# Altium footprint library Transistors.PcbLib: 36 footprints (part 1 of 3)
Each footprint in its own frame and in the unit in brackets; x right, y up, seen from the top. Pads: shape width x height; smd on the part's side, far side on the other; paste and mask are expansions set on the pad; w line width, h text height; cw(c..) or ccw(c..) is an arc to the next point about the centre after c.
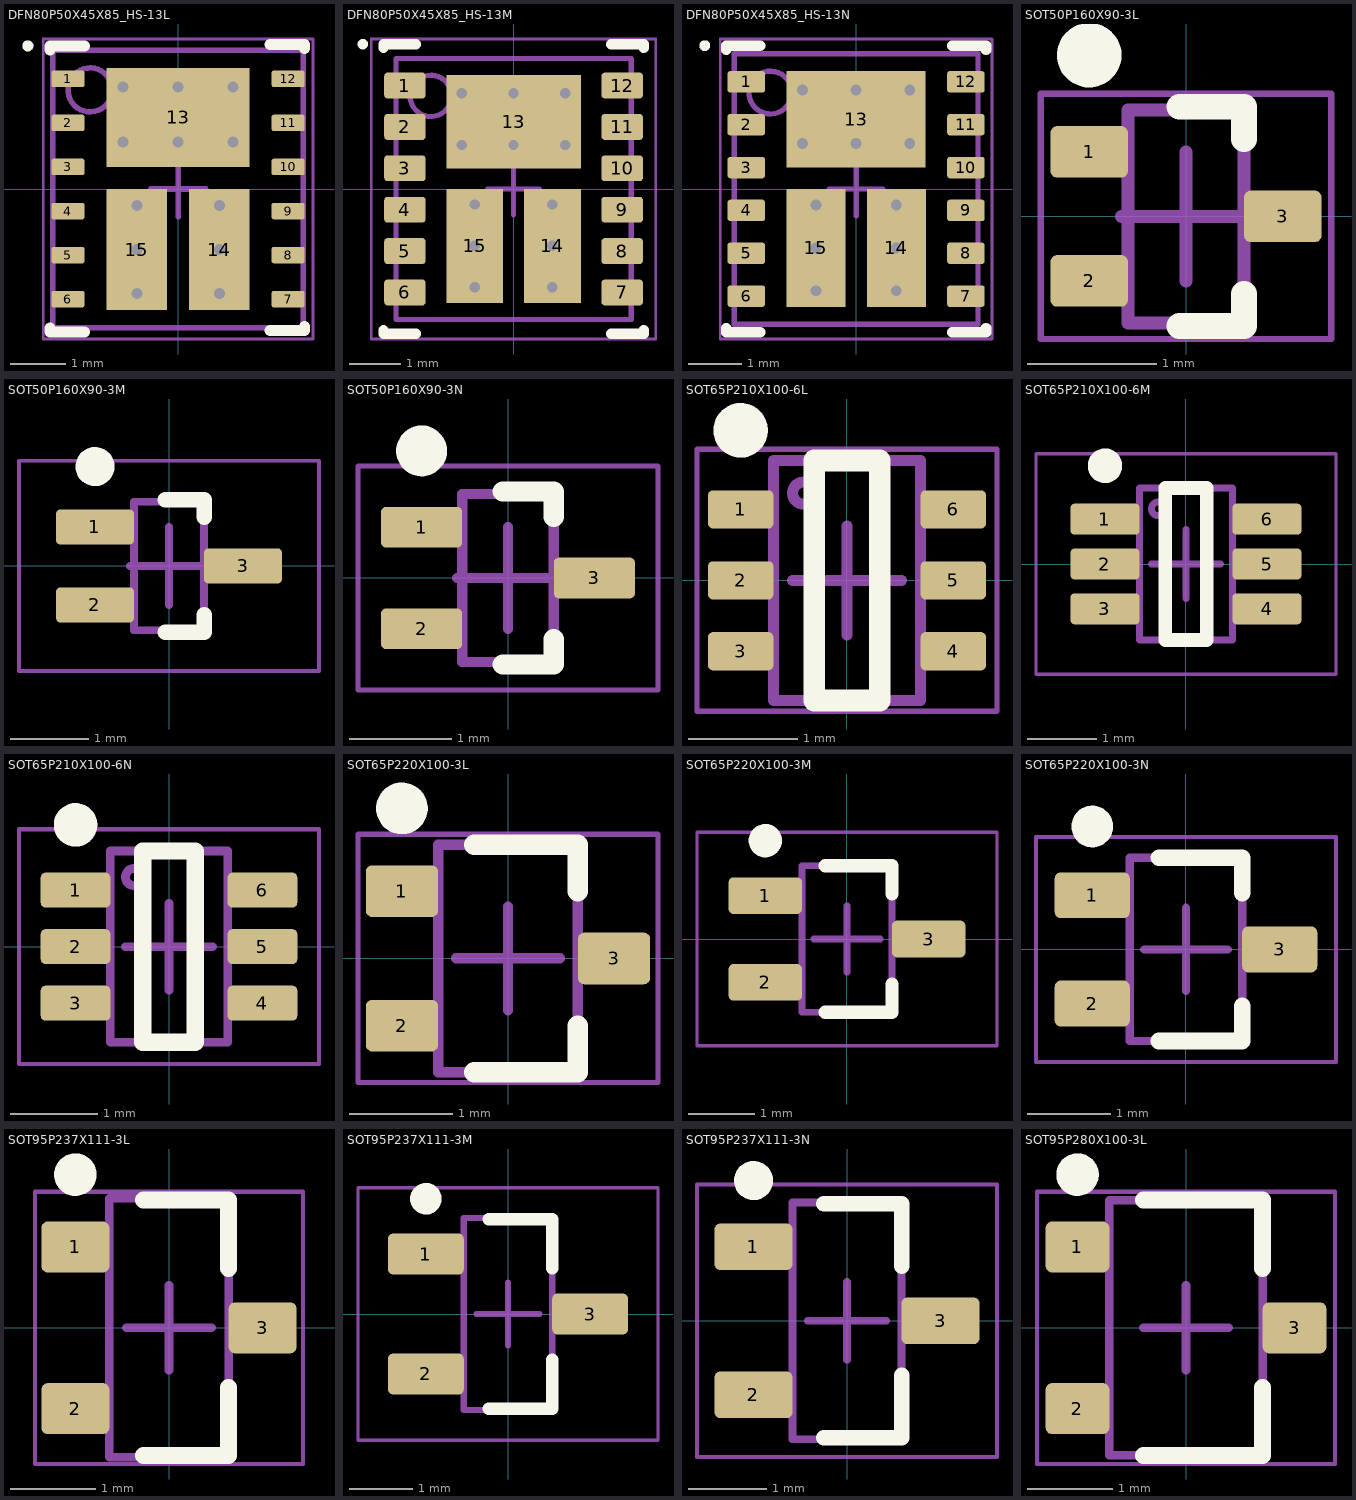
[diagram p0: the footprints below, top view; thin cyan lines are the x and y axes]

## DFN80P50X45X85_HS-13L [mm] "PSON, 12-Leads, Body 5.00x4.50mm, Pitch 0.80mm, Thermal Pad 1.70x2.50mm, IPC High Density"
height 0.85
pads (15):
  rrect25% 0.6x0.3 smd paste+0 mask+0.05: 1(-2,2) 2(-2,1.2) 3(-2,0.4) 4(-2,-0.4) 5(-2,-1.2) 6(-2,-2) 7(2,-2) 8(2,-1.2) 9(2,-0.4) 10(2,0.4) 11(2,1.2) 12(2,2)
  rect 2.6x1.8 smd paste+0 mask+0.05: 13(0,1.3)
  rect 1.1x2.2 smd paste+0 mask+0.05: 14(0.75,-1.1) 15(-0.75,-1.1)
via 0.75,-1.9 diameter 0.5 hole 0.2
via 0.75,-0.3 diameter 0.5 hole 0.2
via 0.75,-1.1 diameter 0.5 hole 0.2
via -0.75,-1.9 diameter 0.5 hole 0.2
via -0.75,-0.3 diameter 0.5 hole 0.2
via -0.75,-1.1 diameter 0.5 hole 0.2
via 1,0.85 diameter 0.5 hole 0.2
via 0,0.85 diameter 0.5 hole 0.2
via -1,0.85 diameter 0.5 hole 0.2
via 1,1.85 diameter 0.5 hole 0.2
via 0,1.85 diameter 0.5 hole 0.2
via -1,1.85 diameter 0.5 hole 0.2
Top Overlay:
  circle w0.1: c-2.73,2.6 r0.05
  lines w0.2: -2.33,-2.525 -2.33,-2.6 -1.7,-2.6 ; -2.33,2.525 -2.33,2.6 -1.7,2.6 ; 1.67,-2.575 2.3,-2.575 2.3,-2.5 ; 1.67,2.625 2.3,2.625 2.3,2.55
Top Component Outline:
  lines w0.1: -2.275,-2.525 -2.275,2.525 2.275,2.525 2.275,-2.525 -2.275,-2.525
Top Courtyard:
  lines w0.05: -2.45,-2.725 2.45,-2.725 2.45,2.725 -2.45,2.725 -2.45,-2.725
Top Component Center:
  lines w0.1: -0.5,0 0.5,0 ; 0,-0.5 0,0.5
Top Designator:
  text ".Designator" at -4.04,-0.476 h2
Top Assembly:
  circle w0.1: c-1.6,1.8 r0.4
  lines w0.1: -2.275,-2.525 2.275,-2.525 2.275,2.525 -2.275,2.525 -2.275,-2.525
  text ".Designator" at -4.04,-0.476 h2
3D body "DFN80P50X45-12.step": height 0.81, standoff 0.01, extent -2.25,-2.5 2.25,2.5

## DFN80P50X45X85_HS-13M [mm] "PSON, 12-Leads, Body 5.00x4.50mm, Pitch 0.80mm, Thermal Pad 1.70x2.50mm, IPC Low Density"
height 0.85
pads (15):
  rrect25% 0.8x0.5 smd paste+0 mask+0.05: 1(-2.1,2) 2(-2.1,1.2) 3(-2.1,0.4) 4(-2.1,-0.4) 5(-2.1,-1.2) 6(-2.1,-2) 7(2.1,-2) 8(2.1,-1.2) 9(2.1,-0.4) 10(2.1,0.4) 11(2.1,1.2) 12(2.1,2)
  rect 2.6x1.8 smd paste+0 mask+0.05: 13(0,1.3)
  rect 1.1x2.2 smd paste+0 mask+0.05: 14(0.75,-1.1) 15(-0.75,-1.1)
via -1,1.85 diameter 0.5 hole 0.2
via 0,1.85 diameter 0.5 hole 0.2
via 1,1.85 diameter 0.5 hole 0.2
via -1,0.85 diameter 0.5 hole 0.2
via 0,0.85 diameter 0.5 hole 0.2
via 1,0.85 diameter 0.5 hole 0.2
via -0.75,-1.1 diameter 0.5 hole 0.2
via -0.75,-0.3 diameter 0.5 hole 0.2
via -0.75,-1.9 diameter 0.5 hole 0.2
via 0.75,-1.1 diameter 0.5 hole 0.2
via 0.75,-0.3 diameter 0.5 hole 0.2
via 0.75,-1.9 diameter 0.5 hole 0.2
Top Overlay:
  circle w0.1: c-2.915,2.8 r0.05
  lines w0.2: -2.515,-2.725 -2.515,-2.8 -1.885,-2.8 ; -2.515,2.725 -2.515,2.8 -1.885,2.8 ; 1.885,-2.8 2.515,-2.8 2.515,-2.725 ; 1.885,2.8 2.515,2.8 2.515,2.725
Top Component Outline:
  lines w0.1: -2.275,-2.525 2.275,-2.525 2.275,2.525 -2.275,2.525 -2.275,-2.525
Top Courtyard:
  lines w0.05: -2.75,-2.9 -2.75,2.9 2.75,2.9 2.75,-2.9 -2.75,-2.9
Top Component Center:
  lines w0.1: -0.5,0 0.5,0 ; 0,-0.5 0,0.5
Top Designator:
  text ".Designator" at -4.04,-0.476 h2
Top Assembly:
  circle w0.1: c-1.6,1.8 r0.4
  lines w0.1: -2.275,-2.525 -2.275,2.525 2.275,2.525 2.275,-2.525 -2.275,-2.525
  text ".Designator" at -4.04,-0.476 h2
3D body "DFN80P50X45-12.step": height 0.81, standoff 0.01, extent -2.25,-2.5 2.25,2.5

## DFN80P50X45X85_HS-13N [mm] "PSON, 12-Leads, Body 5.00x4.50mm, Pitch 0.80mm, Thermal Pad 1.70x2.50mm, IPC Medium Density"
height 0.85
pads (15):
  rrect25% 0.7x0.4 smd paste+0 mask+0.05: 1(-2.05,2) 2(-2.05,1.2) 3(-2.05,0.4) 4(-2.05,-0.4) 5(-2.05,-1.2) 6(-2.05,-2) 7(2.05,-2) 8(2.05,-1.2) 9(2.05,-0.4) 10(2.05,0.4) 11(2.05,1.2) 12(2.05,2)
  rect 2.6x1.8 smd paste+0 mask+0.05: 13(0,1.3)
  rect 1.1x2.2 smd paste+0 mask+0.05: 14(0.75,-1.1) 15(-0.75,-1.1)
via -1,1.85 diameter 0.5 hole 0.2
via 0,1.85 diameter 0.5 hole 0.2
via 1,1.85 diameter 0.5 hole 0.2
via -1,0.85 diameter 0.5 hole 0.2
via 0,0.85 diameter 0.5 hole 0.2
via 1,0.85 diameter 0.5 hole 0.2
via -0.75,-1.1 diameter 0.5 hole 0.2
via -0.75,-0.3 diameter 0.5 hole 0.2
via -0.75,-1.9 diameter 0.5 hole 0.2
via 0.75,-1.1 diameter 0.5 hole 0.2
via 0.75,-0.3 diameter 0.5 hole 0.2
via 0.75,-1.9 diameter 0.5 hole 0.2
Top Overlay:
  circle w0.1: c-2.825,2.675 r0.05
  lines w0.2: -2.425,-2.6 -2.425,-2.675 -1.795,-2.675 ; -2.425,2.6 -2.425,2.675 -1.795,2.675 ; 1.795,-2.675 2.425,-2.675 2.425,-2.6 ; 1.795,2.675 2.425,2.675 2.425,2.6
Top Component Outline:
  lines w0.1: -2.275,-2.525 -2.275,2.525 2.275,2.525 2.275,-2.525 -2.275,-2.525
Top Courtyard:
  lines w0.05: -2.535,-2.8 -2.535,2.8 2.535,2.8 2.535,-2.8 -2.535,-2.8
Top Component Center:
  lines w0.1: -0.5,0 0.5,0 ; 0,-0.5 0,0.5
Top Designator:
  text ".Designator" at -4.04,-0.476 h2
Top Assembly:
  circle w0.1: c-1.6,1.8 r0.4
  lines w0.1: -2.275,-2.525 -2.275,2.525 2.275,2.525 2.275,-2.525 -2.275,-2.525
  text ".Designator" at -4.04,-0.476 h2
3D body "DFN80P50X45-12.step": height 0.81, standoff 0.01, extent -2.25,-2.5 2.25,2.5

## SOT50P160X90-3L [mm] "SOT23, 3-Leads, Body 1.60x1.60mm, Pitch 0.50mm, IPC High Density"
height 0.9
pads (3):
  rrect25% 0.6x0.4 smd paste+0 mask+0.05: 1(-0.75,0.5) 2(-0.75,-0.5) 3(0.75,0)
Top Overlay:
  circle w0.25: c-0.75,1.25 r0.125
  lines w0.2: -0.05,-0.85 0.45,-0.85 0.45,-0.6 ; -0.05,0.85 0.45,0.85 0.45,0.6
Top Component Outline:
  lines w0.1: -0.45,-0.825 0.45,-0.825 0.45,0.825 -0.45,0.825 -0.45,-0.825
Top Courtyard:
  lines w0.05: -1.125,-0.95 -1.125,0.95 1.125,0.95 1.125,-0.95 -1.125,-0.95
Top Component Center:
  lines w0.1: -0.5,0 0.5,0 ; 0,-0.5 0,0.5
Top Designator:
  text ".Designator" at -4.04,-0.476 h2
Top Assembly:
  lines w0.1: -0.45,-0.825 -0.45,0.825 0.45,0.825 0.45,-0.825 -0.45,-0.825
  text ".Designator" at -4.04,-0.476 h2
3D body "SOT50P160X90-3.step": height 0.9, standoff 0, extent -0.85,-0.825 0.85,0.825

## SOT50P160X90-3M [mm] "SOT23, 3-Leads, Body 1.60x1.60mm, Pitch 0.50mm, IPC Low Density"
height 0.9
pads (3):
  rrect25% 1x0.45 smd paste+0 mask+0.05: 1(-0.95,0.5) 2(-0.95,-0.5) 3(0.95,0)
Top Overlay:
  circle w0.25: c-0.95,1.275 r0.125
  lines w0.2: -0.05,-0.85 0.45,-0.85 0.45,-0.625 ; -0.05,0.85 0.45,0.85 0.45,0.625
Top Component Outline:
  lines w0.1: -0.45,-0.825 0.45,-0.825 0.45,0.825 -0.45,0.825 -0.45,-0.825
Top Courtyard:
  lines w0.05: -1.925,-1.35 -1.925,1.35 1.925,1.35 1.925,-1.35 -1.925,-1.35
Top Component Center:
  lines w0.1: -0.5,0 0.5,0 ; 0,-0.5 0,0.5
Top Designator:
  text ".Designator" at -4.04,-0.476 h2
Top Assembly:
  lines w0.1: -0.45,-0.825 -0.45,0.825 0.45,0.825 0.45,-0.825 -0.45,-0.825
  text ".Designator" at -4.04,-0.476 h2
3D body "SOT50P160X90-3.step": height 0.9, standoff 0, extent -0.85,-0.825 0.85,0.825

## SOT50P160X90-3N [mm] "SOT23, 3-Leads, Body 1.60x1.60mm, Pitch 0.50mm, IPC Medium Density"
height 0.9
pads (3):
  rrect25% 0.8x0.4 smd paste+0 mask+0.05: 1(-0.85,0.5) 2(-0.85,-0.5) 3(0.85,0)
Top Overlay:
  circle w0.25: c-0.85,1.25 r0.125
  lines w0.2: -0.05,-0.85 0.45,-0.85 0.45,-0.6 ; -0.05,0.85 0.45,0.85 0.45,0.6
Top Component Outline:
  lines w0.1: -0.45,-0.825 -0.45,0.825 0.45,0.825 0.45,-0.825 -0.45,-0.825
Top Courtyard:
  lines w0.05: -1.475,-1.1 -1.475,1.1 1.475,1.1 1.475,-1.1 -1.475,-1.1
Top Component Center:
  lines w0.1: -0.5,0 0.5,0 ; 0,-0.5 0,0.5
Top Designator:
  text ".Designator" at -4.04,-0.476 h2
Top Assembly:
  lines w0.1: -0.45,-0.825 -0.45,0.825 0.45,0.825 0.45,-0.825 -0.45,-0.825
  text ".Designator" at -4.04,-0.476 h2
3D body "SOT50P160X90-3.step": height 0.9, standoff 0, extent -0.85,-0.825 0.85,0.825

## SOT65P210X100-6L [mm] "SOT23, 6-Leads, Body 2.00x2.10mm, Pitch 0.65mm, IPC High Density"
height 1
pads (6):
  rrect25% 0.6x0.35 smd paste+0 mask+0.05: 1(-0.975,0.65) 2(-0.975,0) 3(-0.975,-0.65) 4(0.975,-0.65) 5(0.975,0) 6(0.975,0.65)
Top Overlay:
  circle w0.25: c-0.975,1.375 r0.125
  lines w0.2: -0.3,-1.1 -0.3,1.1 0.3,1.1 0.3,-1.1 -0.3,-1.1
Top Component Outline:
  lines w0.1: -0.675,-1.1 0.675,-1.1 0.675,1.1 -0.675,1.1 -0.675,-1.1
Top Courtyard:
  lines w0.05: -1.375,-1.2 1.375,-1.2 1.375,1.2 -1.375,1.2 -1.375,-1.2
Top Component Center:
  lines w0.1: -0.5,0 0.5,0 ; 0,-0.5 0,0.5
Top Designator:
  text ".Designator" at -4.04,-0.476 h2
Top Assembly:
  circle w0.1: c-0.4,0.8 r0.1
  lines w0.1: -0.675,-1.1 0.675,-1.1 0.675,1.1 -0.675,1.1 -0.675,-1.1
  text ".Designator" at -4.04,-0.476 h2
3D body "SOT65P210X100-6.step": height 1, standoff 0, extent -1.1,-1.1 1.1,1.1

## SOT65P210X100-6M [mm] "SOT23, 6-Leads, Body 2.00x2.10mm, Pitch 0.65mm, IPC Low Density"
height 1
pads (6):
  rrect25% 1x0.45 smd paste+0 mask+0.05: 1(-1.175,0.65) 2(-1.175,0) 3(-1.175,-0.65) 4(1.175,-0.65) 5(1.175,0) 6(1.175,0.65)
Top Overlay:
  circle w0.25: c-1.175,1.425 r0.125
  lines w0.2: -0.3,-1.1 -0.3,1.1 0.3,1.1 0.3,-1.1 -0.3,-1.1
Top Component Outline:
  lines w0.1: -0.675,-1.1 0.675,-1.1 0.675,1.1 -0.675,1.1 -0.675,-1.1
Top Courtyard:
  lines w0.05: -2.175,-1.6 2.175,-1.6 2.175,1.6 -2.175,1.6 -2.175,-1.6
Top Component Center:
  lines w0.1: -0.5,0 0.5,0 ; 0,-0.5 0,0.5
Top Designator:
  text ".Designator" at -4.04,-0.476 h2
Top Assembly:
  circle w0.1: c-0.4,0.8 r0.1
  lines w0.1: -0.675,-1.1 0.675,-1.1 0.675,1.1 -0.675,1.1 -0.675,-1.1
  text ".Designator" at -4.04,-0.476 h2
3D body "SOT65P210X100-6.step": height 1, standoff 0, extent -1.1,-1.1 1.1,1.1

## SOT65P210X100-6N [mm] "SOT23, 6-Leads, Body 2.00x2.10mm, Pitch 0.65mm, IPC Medium Density"
height 1
pads (6):
  rrect25% 0.8x0.4 smd paste+0 mask+0.05: 1(-1.075,0.65) 2(-1.075,0) 3(-1.075,-0.65) 4(1.075,-0.65) 5(1.075,0) 6(1.075,0.65)
Top Overlay:
  circle w0.25: c-1.075,1.4 r0.125
  lines w0.2: -0.3,-1.1 -0.3,1.1 0.3,1.1 0.3,-1.1 -0.3,-1.1
Top Component Outline:
  lines w0.1: -0.675,-1.1 0.675,-1.1 0.675,1.1 -0.675,1.1 -0.675,-1.1
Top Courtyard:
  lines w0.05: -1.725,-1.35 1.725,-1.35 1.725,1.35 -1.725,1.35 -1.725,-1.35
Top Component Center:
  lines w0.1: -0.5,0 0.5,0 ; 0,-0.5 0,0.5
Top Designator:
  text ".Designator" at -4.04,-0.476 h2
Top Assembly:
  circle w0.1: c-0.4,0.8 r0.1
  lines w0.1: -0.675,-1.1 0.675,-1.1 0.675,1.1 -0.675,1.1 -0.675,-1.1
  text ".Designator" at -4.04,-0.476 h2
3D body "SOT65P210X100-6.step": height 1, standoff 0, extent -1.1,-1.1 1.1,1.1

## SOT65P220X100-3L [mm] "SOT23, 3-Leads, Body 2.00x2.20mm, Pitch 0.65mm, IPC High Density"
height 1
pads (3):
  rrect25% 0.7x0.5 smd paste+0 mask+0.05: 1(-1.025,0.65) 2(-1.025,-0.65) 3(1.025,0)
Top Overlay:
  circle w0.25: c-1.025,1.45 r0.125
  lines w0.2: -0.325,-1.1 0.675,-1.1 0.675,-0.65 ; -0.325,1.1 0.675,1.1 0.675,0.65
Top Component Outline:
  lines w0.1: -0.675,-1.1 0.675,-1.1 0.675,1.1 -0.675,1.1 -0.675,-1.1
Top Courtyard:
  lines w0.05: -1.45,-1.2 1.45,-1.2 1.45,1.2 -1.45,1.2 -1.45,-1.2
Top Component Center:
  lines w0.1: -0.5,0 0.5,0 ; 0,-0.5 0,0.5
Top Designator:
  text ".Designator" at -4.04,-0.476 h2
Top Assembly:
  lines w0.1: -0.675,-1.1 0.675,-1.1 0.675,1.1 -0.675,1.1 -0.675,-1.1
  text ".Designator" at -4.04,-0.476 h2
3D body "SOT65P220X100-3.step": height 1, standoff 0, extent -1.2,-1.1 1.2,1.1

## SOT65P220X100-3M [mm] "SOT23, 3-Leads, Body 2.00x2.20mm, Pitch 0.65mm, IPC Low Density"
height 1
pads (3):
  rrect25% 1.1x0.55 smd paste+0 mask+0.05: 1(-1.225,0.65) 2(-1.225,-0.65) 3(1.225,0)
Top Overlay:
  circle w0.25: c-1.225,1.475 r0.125
  lines w0.2: -0.325,-1.1 0.675,-1.1 0.675,-0.675 ; -0.325,1.1 0.675,1.1 0.675,0.675
Top Component Outline:
  lines w0.1: -0.675,-1.1 -0.675,1.1 0.675,1.1 0.675,-1.1 -0.675,-1.1
Top Courtyard:
  lines w0.05: -2.25,-1.6 2.25,-1.6 2.25,1.6 -2.25,1.6 -2.25,-1.6
Top Component Center:
  lines w0.1: -0.5,0 0.5,0 ; 0,-0.5 0,0.5
Top Designator:
  text ".Designator" at -4.04,-0.476 h2
Top Assembly:
  lines w0.1: -0.675,-1.1 0.675,-1.1 0.675,1.1 -0.675,1.1 -0.675,-1.1
  text ".Designator" at -4.04,-0.476 h2
3D body "SOT65P220X100-3.step": height 1, standoff 0, extent -1.2,-1.1 1.2,1.1

## SOT65P220X100-3N [mm] "SOT23, 3-Leads, Body 2.00x2.20mm, Pitch 0.65mm, IPC Medium Density"
height 1
pads (3):
  rrect25% 0.9x0.55 smd paste+0 mask+0.05: 1(-1.125,0.65) 2(-1.125,-0.65) 3(1.125,0)
Top Overlay:
  circle w0.25: c-1.125,1.475 r0.125
  lines w0.2: -0.325,-1.1 0.675,-1.1 0.675,-0.675 ; -0.325,1.1 0.675,1.1 0.675,0.675
Top Component Outline:
  lines w0.1: -0.675,-1.1 0.675,-1.1 0.675,1.1 -0.675,1.1 -0.675,-1.1
Top Courtyard:
  lines w0.05: -1.8,-1.35 1.8,-1.35 1.8,1.35 -1.8,1.35 -1.8,-1.35
Top Component Center:
  lines w0.1: -0.5,0 0.5,0 ; 0,-0.5 0,0.5
Top Designator:
  text ".Designator" at -4.04,-0.476 h2
Top Assembly:
  lines w0.1: -0.675,-1.1 0.675,-1.1 0.675,1.1 -0.675,1.1 -0.675,-1.1
  text ".Designator" at -4.04,-0.476 h2
3D body "SOT65P220X100-3.step": height 1, standoff 0, extent -1.2,-1.1 1.2,1.1

## SOT95P237X111-3L [mm] "SOT23, 3-Leads, Body 2.92x2.37mm, Pitch 0.95mm, IPC High Density"
height 1.11
pads (3):
  rrect25% 0.8x0.6 smd paste+0 mask+0.05: 1(-1.1,0.95) 2(-1.1,-0.95) 3(1.1,0)
Top Overlay:
  circle w0.25: c-1.1,1.8 r0.125
  lines w0.2: -0.3,-1.5 0.7,-1.5 0.7,-0.7 ; -0.3,1.5 0.7,1.5 0.7,0.7
Top Component Outline:
  lines w0.1: -0.7,-1.52 -0.7,1.52 0.7,1.52 0.7,-1.52 -0.7,-1.52
Top Courtyard:
  lines w0.05: -1.575,-1.6 -1.575,1.6 1.575,1.6 1.575,-1.6 -1.575,-1.6
Top Component Center:
  lines w0.1: -0.5,0 0.5,0 ; 0,-0.5 0,0.5
Top Designator:
  text ".Designator" at -4.04,-0.476 h2
Top Assembly:
  lines w0.1: -0.7,-1.52 -0.7,1.52 0.7,1.52 0.7,-1.52 -0.7,-1.52
  text ".Designator" at -4.04,-0.476 h2
3D body "SOT95P237X111-3.step": height 1.11, standoff 0, extent -1.32,-1.52 1.32,1.52

## SOT95P237X111-3M [mm] "SOT23, 3-Leads, Body 2.92x2.37mm, Pitch 0.95mm, IPC Low Density"
height 1.11
pads (3):
  rrect25% 1.2x0.65 smd paste+0 mask+0.05: 1(-1.3,0.95) 2(-1.3,-0.95) 3(1.3,0)
Top Overlay:
  circle w0.25: c-1.3,1.825 r0.125
  lines w0.2: -0.3,-1.5 0.7,-1.5 0.7,-0.725 ; -0.3,1.5 0.7,1.5 0.7,0.725
Top Component Outline:
  lines w0.1: -0.7,-1.52 0.7,-1.52 0.7,1.52 -0.7,1.52 -0.7,-1.52
Top Courtyard:
  lines w0.05: -2.375,-2 -2.375,2 2.375,2 2.375,-2 -2.375,-2
Top Component Center:
  lines w0.1: -0.5,0 0.5,0 ; 0,-0.5 0,0.5
Top Designator:
  text ".Designator" at -4.04,-0.476 h2
Top Assembly:
  lines w0.1: -0.7,-1.52 -0.7,1.52 0.7,1.52 0.7,-1.52 -0.7,-1.52
  text ".Designator" at -4.04,-0.476 h2
3D body "SOT95P237X111-3.step": height 1.11, standoff 0, extent -1.32,-1.52 1.32,1.52

## SOT95P237X111-3N [mm] "SOT23, 3-Leads, Body 2.92x2.37mm, Pitch 0.95mm, IPC Medium Density"
height 1.11
pads (3):
  rrect25% 1x0.6 smd paste+0 mask+0.05: 1(-1.2,0.95) 2(-1.2,-0.95) 3(1.2,0)
Top Overlay:
  circle w0.25: c-1.2,1.8 r0.125
  lines w0.2: -0.3,-1.5 0.7,-1.5 0.7,-0.7 ; -0.3,1.5 0.7,1.5 0.7,0.7
Top Component Outline:
  lines w0.1: -0.7,-1.52 -0.7,1.52 0.7,1.52 0.7,-1.52 -0.7,-1.52
Top Courtyard:
  lines w0.05: -1.925,-1.75 -1.925,1.75 1.925,1.75 1.925,-1.75 -1.925,-1.75
Top Component Center:
  lines w0.1: -0.5,0 0.5,0 ; 0,-0.5 0,0.5
Top Designator:
  text ".Designator" at -4.04,-0.476 h2
Top Assembly:
  lines w0.1: -0.7,-1.52 -0.7,1.52 0.7,1.52 0.7,-1.52 -0.7,-1.52
  text ".Designator" at -4.04,-0.476 h2
3D body "SOT95P237X111-3.step": height 1.11, standoff 0, extent -1.32,-1.52 1.32,1.52

## SOT95P280X100-3L [mm] "SOT23, 3-Leads, Body 2.90x2.80mm, Pitch 0.95mm, IPC High Density"
height 1
pads (3):
  rrect25% 0.75x0.6 smd paste+0 mask+0.05: 1(-1.275,0.95) 2(-1.275,-0.95) 3(1.275,0)
Top Overlay:
  circle w0.25: c-1.275,1.8 r0.125
  lines w0.2: -0.5,-1.5 0.9,-1.5 0.9,-0.7 ; -0.5,1.5 0.9,1.5 0.9,0.7
Top Component Outline:
  lines w0.1: -0.9,-1.5 -0.9,1.5 0.9,1.5 0.9,-1.5 -0.9,-1.5
Top Courtyard:
  lines w0.05: -1.75,-1.6 -1.75,1.6 1.75,1.6 1.75,-1.6 -1.75,-1.6
Top Component Center:
  lines w0.1: -0.5,0 0.5,0 ; 0,-0.5 0,0.5
Top Designator:
  text ".Designator" at -4.04,-0.476 h2
Top Assembly:
  lines w0.1: -0.9,-1.5 -0.9,1.5 0.9,1.5 0.9,-1.5 -0.9,-1.5
  text ".Designator" at -4.04,-0.476 h2
3D body "SOT95P280X100-3.step": height 1, standoff 0, extent -1.5,-1.5 1.5,1.5